# EAGLE library part MOLEX_52435-2271 (library Upverter Library)
MOLX-52435-2271
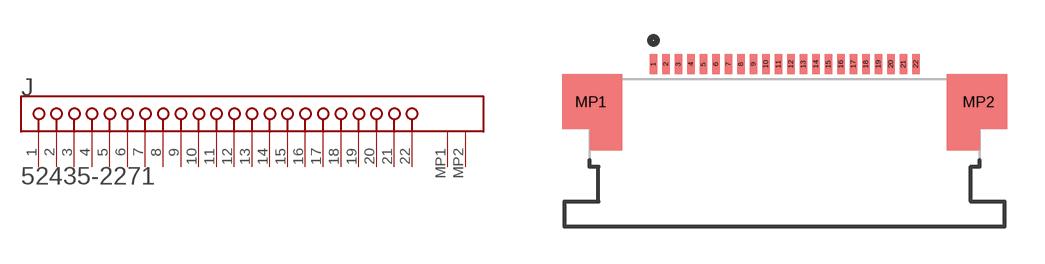
[diagram p0: symbol with the pads of MOLEX_52435-2271_0; footprint MOLEX_52435-2271_0]

Designator prefix J

## MOLEX_52435-2271MOLEX_52435-2271_0_0 (Circuits_Loaded: 22; Component_Link_1_Description: Manufacturer URL; Component_Link_1_URL: http://www.molex.com/molex/index.jsp; Component_Link_3_Description: Package Specification; Component_Link_3_URL: http://www.molex.com/pdm_docs/sd/524352271_sd.pdf; Contact_Position: Top; Current_Max_per_Contact: 0.5A; Durability_mating_cycles_max: 20; Entry_Angle: 90degrees Angle; MF: Molex; MPN: 52435-2271; Mated_Height: 2.00mm; Material___Metal: Phosphor Bronze; Material___Plating_Mating: Gold; Material___Plating_Termination: Gold; Mounting_Technology: Surface Mount; Number_of_Rows: 1; Orientation: Right Angle; PCB_Locator: No; PCB_Retention: Yes; Package_Description: 22-Lead FPC Connector, Pitch 0.5 mm; Package_Version: Rev. D, 07/2010; Packing: Tape and Reel; Pitch___Mating_Interface: 0.50mm; Polarized_to_PCB: Yes; Stackable: No; Voltage_Max: 50V AC (RMS)/DC; ciiva_ids: 3405332; datasheet: http://www.molex.com/webdocs/datasheets/pdf/en-us/0528081170_FFC_FPC_CONNECTORS.pdf; footprint_variant_name_0: Manufacturer Recommended; import_ts: 1521866049; imported: yes; imported_from: vault; package: 52435-2271; prefix: J; release_date: 1411372500; rohs: Yes; vault_guid: 5C207927-C671-4B4D-9735-1FD1325BC597; vault_revision: 01A3CCE3-FE3B-43B1-9675-CF6400128223)  [MOLEX_52435-2271_0]
1  1  pas
2  2  pas
3  3  pas
4  4  pas
5  5  pas
6  6  pas
7  7  pas
8  8  pas
9  9  pas
10  10  pas
11  11  pas
12  12  pas
13  13  pas
14  14  pas
15  15  pas
16  16  pas
17  17  pas
18  18  pas
19  19  pas
20  20  pas
21  21  pas
22  22  pas
MP1  MP1  pas
MP2  MP2  pas

## Footprint MOLEX_52435-2271_0 (pad centres in mm)
MOLX-52435-2271
smd 0.3 x 0.8: 1 -5.25,0.762; 2 -4.75,0.762; 3 -4.25,0.762; 4 -3.75,0.762; 5 -3.25,0.762; 6 -2.75,0.762; 7 -2.25,0.762; 8 -1.75,0.762; 9 -1.25,0.762; 10 -0.75,0.762; 11 -0.25,0.762; 12 0.25,0.762; 13 0.75,0.762; 14 1.25,0.762; 15 1.75,0.762; 16 2.25,0.762; 17 2.75,0.762; 18 3.25,0.762; 19 3.75,0.762; 20 4.25,0.762; 21 4.75,0.762; 22 5.25,0.762
smd 1 x 1: MP1 -7.75,-0.742; MP2 7.75,-0.742